# Altium schematic symbol library 6903 6819 xx 72.SchLib: 12 symbols
Pins are listed as number, name and electrical type; pins without a type are passive.

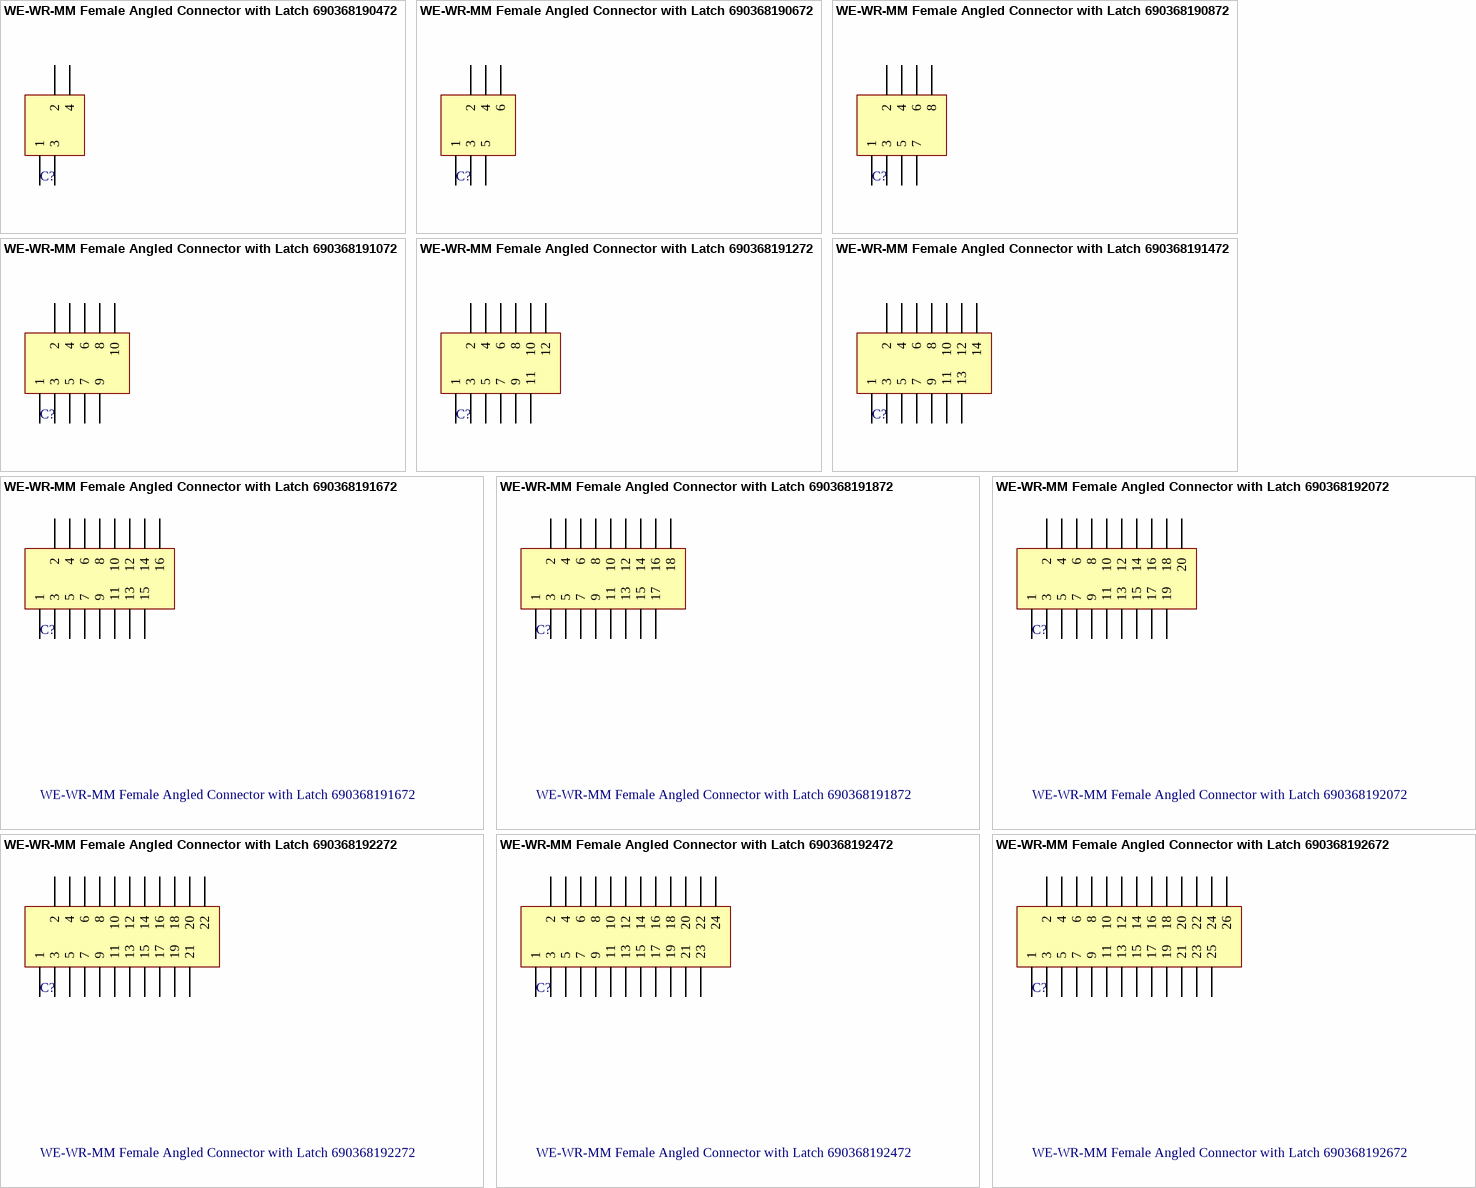
[diagram p0: symbols WE-WR-MM Female Angled Connector with Latch 690368190472 to WE-WR-MM Female Angled Connector with Latch 690368192672]

## WE-WR-MM Female Angled Connector with Latch 690368190472
designator C?
WR-MM Female Angled Connector with Latch; Manufacturer: Würth Elektronik eiSos GmbH; ComponentLink1 Description: Manufacturer; ComponentLink2 Description: Datasheet; NoPins: 4; Created Date: 18 April 2013; partNo: 690368190472; ComponentLink1URL: http://www.we-online.com; ComponentLink2URL: http://katalog.we-online.de/em/datasheet/69036819xx72.pdf; Created by: Karrer Zheng
footprint 690368190472 (and Polarization, 4 pins, right angled)
pins: 1, 2, 3, 4

## WE-WR-MM Female Angled Connector with Latch 690368190672
designator C?
WR-MM Female Angled Connector with Latch; Manufacturer: Würth Elektronik eiSos GmbH; ComponentLink1 Description: Manufacturer; ComponentLink2 Description: Datasheet; NoPins: 6; Created Date: 18 April 2013; partNo: 690368190672; ComponentLink1URL: http://www.we-online.com; ComponentLink2URL: http://katalog.we-online.de/em/datasheet/69036819xx72.pdf; Created by: Karrer Zheng
footprint 690368190672 (and Polarization, 6 pins, right angled)
pins: 1, 2, 3, 4, 5, 6

## WE-WR-MM Female Angled Connector with Latch 690368190872
designator C?
WR-MM Female Angled Connector with Latch; Manufacturer: Würth Elektronik eiSos GmbH; ComponentLink1 Description: Manufacturer; ComponentLink2 Description: Datasheet; NoPins: 8; Created Date: 18 April 2013; partNo: 690368190872; ComponentLink1URL: http://www.we-online.com; ComponentLink2URL: http://katalog.we-online.de/em/datasheet/69036819xx72.pdf; Created by: Karrer Zheng
footprint 690368190872 (and Polarization, 8 pins, right angled)
pins: 1, 2, 3, 4, 5, 6, 7, 8

## WE-WR-MM Female Angled Connector with Latch 690368191072
designator C?
WR-MM Female Angled Connector with Latch; Manufacturer: Würth Elektronik eiSos GmbH; ComponentLink1 Description: Manufacturer; ComponentLink2 Description: Datasheet; NoPins: 10; Created Date: 18 April 2013; partNo: 690368191072; ComponentLink1URL: http://www.we-online.com; ComponentLink2URL: http://katalog.we-online.de/em/datasheet/69036819xx72.pdf; Created by: Karrer Zheng
footprint 690368191072 (and Polarization, 10 pins, right angled)
pins: 1, 2, 3, 4, 5, 6, 7, 8, 9, 10

## WE-WR-MM Female Angled Connector with Latch 690368191272
designator C?
WR-MM Female Angled Connector with Latch; Manufacturer: Würth Elektronik eiSos GmbH; ComponentLink1 Description: Manufacturer; ComponentLink2 Description: Datasheet; NoPins: 12; Created Date: 18 April 2013; partNo: 690368191272; ComponentLink1URL: http://www.we-online.com; ComponentLink2URL: http://katalog.we-online.de/em/datasheet/69036819xx72.pdf; Created by: Karrer Zheng
footprint 690368191272 (and Polarization, 12 pins, right angled)
pins: 1, 2, 3, 4, 5, 6, 7, 8, 9, 10, 11, 12

## WE-WR-MM Female Angled Connector with Latch 690368191472
designator C?
WR-MM Female Angled Connector with Latch; Manufacturer: Würth Elektronik eiSos GmbH; ComponentLink1 Description: Manufacturer; ComponentLink2 Description: Datasheet; NoPins: 14; Created Date: 18 April 2013; partNo: 690368191472; ComponentLink1URL: http://www.we-online.com; ComponentLink2URL: http://katalog.we-online.de/em/datasheet/69036819xx72.pdf; Created by: Karrer Zheng
footprint 690368191472 (and Polarization, 14 pins, right angled)
pins: 1, 2, 3, 4, 5, 6, 7, 8, 9, 10, 11, 12, 13, 14

## WE-WR-MM Female Angled Connector with Latch 690368191672
designator C?
WR-MM Female Angled Connector with Latch; Manufacturer: Würth Elektronik eiSos GmbH; ComponentLink1 Description: Manufacturer; ComponentLink2 Description: Datasheet; NoPins: 16; Created Date: 18 April 2013; partNo: 690368191672; ComponentLink1URL: http://www.we-online.com; ComponentLink2URL: http://katalog.we-online.de/em/datasheet/69036819xx72.pdf; Created by: Karrer Zheng
footprint 690368191672 (and Polarization, 16 pins, right angled)
pins: 1, 2, 3, 4, 5, 6, 7, 8, 9, 10, 11, 12, 13, 14, 15, 16

## WE-WR-MM Female Angled Connector with Latch 690368191872
designator C?
WR-MM Female Angled Connector with Latch; Manufacturer: Würth Elektronik eiSos GmbH; ComponentLink1 Description: Manufacturer; ComponentLink2 Description: Datasheet; NoPins: 18; Created Date: 18 April 2013; partNo: 690368191872; ComponentLink1URL: http://www.we-online.com; ComponentLink2URL: http://katalog.we-online.de/em/datasheet/69036819xx72.pdf; Created by: Karrer Zheng
footprint 690368191872 (and Polarization, 18 pins, right angled)
pins: 1, 2, 3, 4, 5, 6, 7, 8, 9, 10, 11, 12, 13, 14, 15, 16, 17, 18

## WE-WR-MM Female Angled Connector with Latch 690368192072
designator C?
WR-MM Female Angled Connector with Latch; Manufacturer: Würth Elektronik eiSos GmbH; ComponentLink1 Description: Manufacturer; ComponentLink2 Description: Datasheet; NoPins: 20; Created Date: 18 April 2013; partNo: 690368192072; ComponentLink1URL: http://www.we-online.com; ComponentLink2URL: http://katalog.we-online.de/em/datasheet/69036819xx72.pdf; Created by: Karrer Zheng
footprint 690368192072 (and Polarization, 20 pins, right angled)
pins: 1, 2, 3, 4, 5, 6, 7, 8, 9, 10, 11, 12, 13, 14, 15, 16, 17, 18, 19, 20

## WE-WR-MM Female Angled Connector with Latch 690368192272
designator C?
WR-MM Female Angled Connector with Latch; Manufacturer: Würth Elektronik eiSos GmbH; ComponentLink1 Description: Manufacturer; ComponentLink2 Description: Datasheet; NoPins: 22; Created Date: 18 April 2013; partNo: 690368192272; ComponentLink1URL: http://www.we-online.com; ComponentLink2URL: http://katalog.we-online.de/em/datasheet/69036819xx72.pdf; Created by: Karrer Zheng
footprint 690368192272 (and Polarization, 22 pins, right angled)
pins: 1, 2, 3, 4, 5, 6, 7, 8, 9, 10, 11, 12, 13, 14, 15, 16, 17, 18, 19, 20, 21, 22

## WE-WR-MM Female Angled Connector with Latch 690368192472
designator C?
WR-MM Female Angled Connector with Latch; Manufacturer: Würth Elektronik eiSos GmbH; ComponentLink1 Description: Manufacturer; ComponentLink2 Description: Datasheet; NoPins: 24; Created Date: 18 April 2013; partNo: 690368192472; ComponentLink1URL: http://www.we-online.com; ComponentLink2URL: http://katalog.we-online.de/em/datasheet/69036819xx72.pdf; Created by: Karrer Zheng
footprint 690368192472 (and Polarization, 24 pins, right angled)
pins: 1, 2, 3, 4, 5, 6, 7, 8, 9, 10, 11, 12, 13, 14, 15, 16, 17, 18, 19, 20, 21, 22, 23, 24

## WE-WR-MM Female Angled Connector with Latch 690368192672
designator C?
WR-MM Female Angled Connector with Latch; Manufacturer: Würth Elektronik eiSos GmbH; ComponentLink1 Description: Manufacturer; ComponentLink2 Description: Datasheet; NoPins: 26; Created Date: 18 April 2013; partNo: 690368192672; ComponentLink1URL: http://www.we-online.com; ComponentLink2URL: http://katalog.we-online.de/em/datasheet/69036819xx72.pdf; Created by: Karrer Zheng
footprint 690368192672 (and Polarization, 26 pins, right angled)
pins: 1, 2, 3, 4, 5, 6, 7, 8, 9, 10, 11, 12, 13, 14, 15, 16, 17, 18, 19, 20, 21, 22, 23, 24, 25, 26